# Altium schematic symbol library Button.SchLib: 1 symbol
Pins are listed as number, name and electrical type; pins without a type are passive.

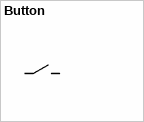
[diagram p0: symbol Button]

## Button
designator SW, comment 0  (value not drawn)
footprint 0603 (Chip Resistor, 2-Leads, Body 1,63x0,93mm, IPC Medium Density)
pins: 1, 2